# EAGLE library part AT28BV64B-20JU (library Memory)
IC EEPROM 64K PARALLEL 32PLCC Manufacturer's datasheet <http://ww1.microchip.com/downloads/en/DeviceDoc/Atmel-0299-PEEPROM-AT28BV64B-Datasheet.pdf>
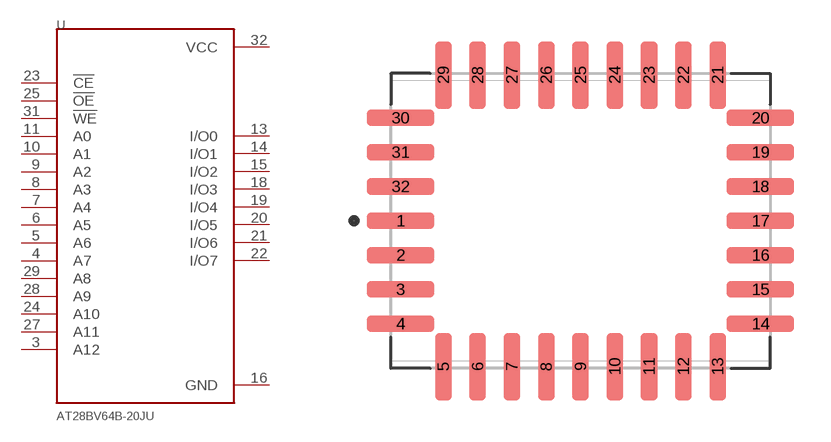
[diagram p22: symbol with the pads of PLCC-32; footprint PLCC-32]

Designator prefix U

## AT28BV64B-20JU (CREATED_BY: PCBLayout.com; DIGIKEY_PART_NUMBER: AT28BV64B-20JU-ND; MANUFACTURER: Microchip Technology; MPN: AT28BV64B-20JU; PACKAGE: PLCC-32)  [PLCC-32]
3  A12  in
4  A7  in
5  A6  in
6  A5  in
7  A4  in
8  A3  in
9  A2  in
10  A1  in
11  A0  in
13  I/O0
14  I/O1
15  I/O2
16  GND  pwr
18  I/O3
19  I/O4
20  I/O5
21  I/O6
22  I/O7
23  !CE  in
24  A10  in
25  !OE  in
27  A11  in
28  A9  in
29  A8  in
31  !WE  in
32  VCC  pwr

## Footprint PLCC-32 (pad centres in mm)
Plastic Leaded Chip Carrier (PLCC), 1.27 mm pitch; rect., 9 pin X 7 pin, 13.97 mm L X 10.414 mm W X 3.556 mm H body PCB Libraries Packages
smd 2.51 x 0.62: 1 -6.665,0; 2 -6.665,-1.27; 3 -6.665,-2.54; 4 -6.665,-3.81; 14 6.665,-3.81; 15 6.665,-2.54; 16 6.665,-1.27; 17 6.665,0; 18 6.665,1.27; 19 6.665,2.54; 20 6.665,3.81; 30 -6.665,3.81; 31 -6.665,2.54; 32 -6.665,1.27
smd 0.62 x 2.51: 5 -5.08,-5.395; 6 -3.81,-5.395; 7 -2.54,-5.395; 8 -1.27,-5.395; 9 0,-5.395; 10 1.27,-5.395; 11 2.54,-5.395; 12 3.81,-5.395; 13 5.08,-5.395; 21 5.08,5.395; 22 3.81,5.395; 23 2.54,5.395; 24 1.27,5.395; 25 0,5.395; 26 -1.27,5.395; 27 -2.54,5.395; 28 -3.81,5.395; 29 -5.08,5.395